# EAGLE library part LY40 (library relay)
RELAY 4 x switch, Omron
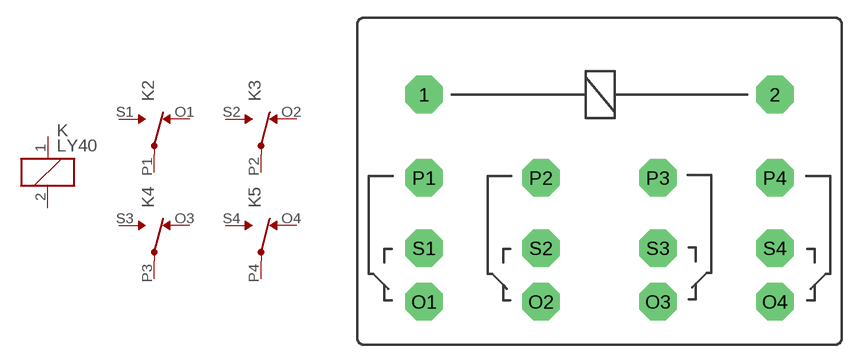
[diagram p17: symbol with the pads of LY40; footprint LY40]

Designator prefix K; gates 1=K 2=U 3=U 4=U 5=U

## LY40  [LY40]
1  1:1  pas
2  1:2  pas
O1  2:NC  pas
O2  3:NC  pas
O3  4:NC  pas
O4  5:NC  pas
P1  2:COM  pas
P2  3:COM  pas
P3  4:COM  pas
P4  5:COM  pas
S1  2:NO  pas
S2  3:NO  pas
S3  4:NO  pas
S4  5:NO  pas

## Footprint LY40 (pad centres in mm)
RELAY 4 x switch, Omron
drill 2.21 octagon: 1 -15.011,0; 2 15.011,0; O1 -15.011,-17.755; O2 -5.004,-17.755; O3 5.004,-17.755; O4 15.011,-17.755; P1 -15.011,-7.137; P2 -5.004,-7.137; P3 5.004,-7.137; P4 15.011,-7.137; S1 -15.011,-13.157; S2 -5.004,-13.157; S3 5.004,-13.157; S4 15.011,-13.157